# Altium footprint library 我的PCB.PcbLib: 347 footprints (part 14 of 22)
Each footprint in its own frame and in the unit in brackets; x right, y up, seen from the top. Pads: shape width x height; smd on the part's side, far side on the other; paste and mask are expansions set on the pad; w line width, h text height; cw(c..) or ccw(c..) is an arc to the next point about the centre after c.
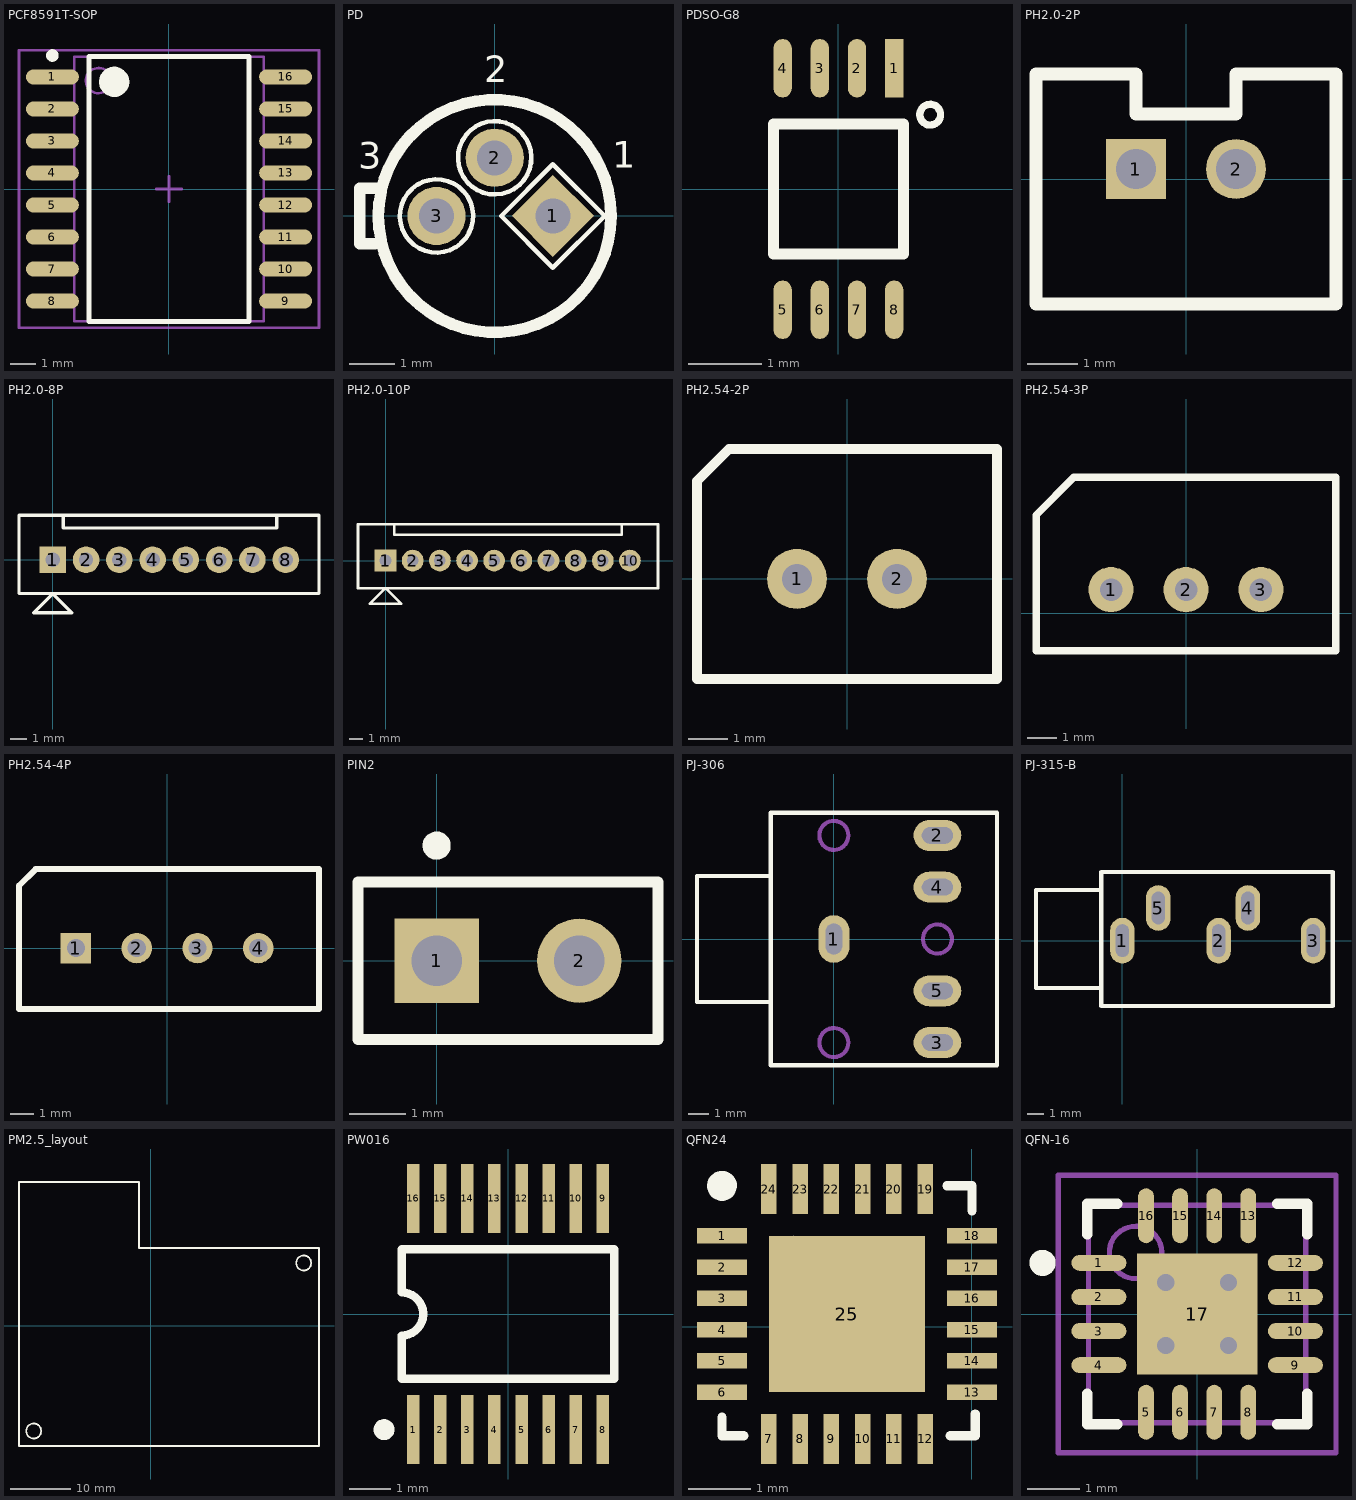
[diagram p13: the footprints below, top view; thin cyan lines are the x and y axes]

## PCF8591T-SOP [mm] "SOP, 16-Leads, Body 10.5x7.5mm (max), Pitch 1.27mm, IPC Medium Density"
height 2.65
pads (16):
  oval 2.1x0.6 smd: 1(-4.625,4.445) 2(-4.625,3.175) 3(-4.625,1.905) 4(-4.625,0.635) 5(-4.625,-0.635) 6(-4.625,-1.905) 7(-4.625,-3.175) 8(-4.625,-4.445) 9(4.625,-4.445) 10(4.625,-3.175) 11(4.625,-1.905) 12(4.625,-0.635) 13(4.625,0.635) 14(4.625,1.905) 15(4.625,3.175) 16(4.625,4.445)
Top Overlay:
  circle w0.25: c-4.625,5.295 r0.125
  circle w0.6: c-2.175,4.25 r0.3
  lines w0.2: -3.175,-5.25 -3.175,5.25 3.175,5.25 3.175,-5.25 -3.175,-5.25
Mechanical 13:
  circle w0.1: c-2.8,4.3 r0.5
  lines w0.1: -3.75,-5.25 -3.75,5.25 3.75,5.25 3.75,-5.25 -3.75,-5.25
Mechanical 15:
  lines w0.1: -0.5,0 0.5,0 ; 0,-0.5 0,0.5 ; -5.95,-5.5 -5.95,5.5 5.95,5.5 5.95,-5.5 -5.95,-5.5
3D body: height 2.65, standoff 0.1, extent -3.75,-5.25 3.75,5.25

## PD [mil]
pads (3):
  rect 50x50 hole 30 rot 45: 1(50,0)
  round 50 hole 30: 2(0,50) 3(-50,0)
Top Overlay:
  circle w10: c0,0 r100
  lines w3.94: -18.5,1 ccw(c-50,0) -18.5,0.98 ; 5.5,0 50,-44.5 94.5,0 50,44.5 5.5,0 ; 31.5,51 ccw(c0,50) 31.5,50.98
  lines w9.84: -103,-24 -116,-24 -116,24 -102,24
  text "3" at -117.5,33 h39.37
  text "2" at -9,107 h39.37
  text "1" at 101,33.5 h39.37
Bottom Overlay:
  lines w3.94: -18.5,1 ccw(c-50,0) -18.5,0.98 ; 5.5,0 50,44.5 94.5,0 50,-44.5 5.5,0 ; 31.5,51 ccw(c0,50) 31.5,50.98

## PDSO-G8 [mm] "U"
height 4
pads (8):
  rect 0.25x0.8 smd: 1(0.762,1.651)
  oval 0.25x0.8 smd: 2(0.254,1.651) 3(-0.254,1.651) 4(-0.762,1.651) 5(-0.762,-1.651) 6(-0.254,-1.651) 7(0.254,-1.651) 8(0.762,-1.651)
Top Overlay:
  circle w0.1: c1.255,1.016 r0.142
  lines w0.15: -0.889,-0.889 -0.889,0.889 0.889,0.889 0.889,-0.889 -0.889,-0.889

## PH2.0-2P [mm]
pads (2):
  rect 1.2x1.2 hole 0.8: 1(-1,0.2)
  round 1.2 hole 0.8: 2(1,0.2)
Top Overlay:
  lines w0.254: -3,-2.5 -3,2.1 -1,2.1 -1,1.3 1,1.3 1,2.1 3,2.1 3,-2.5 1,-2.5 -3,-2.5

## PH2.0-8P [mm]
height 10
pads (8):
  rect 1.6x1.6 hole 0.86: 1(0,0)
  round 1.6 hole 0.86: 2(2,0) 3(4,0) 4(6,0) 5(8,0) 6(10,0) 7(12,0) 8(14,0)
Top Overlay:
  lines w0.2: 0.635,2.667 0.635,1.905 13.462,1.905 13.462,2.667 ; -2.032,-2.032 16.002,-2.032 16.002,2.667 -2.032,2.667 -2.032,-2.032 ; -1.143,-3.175 1.143,-3.175 0,-2.032 -1.143,-3.175

## PH2.0-10P [mm]
height 10
pads (10):
  rect 1.6x1.6 hole 0.86: 1(0,0)
  round 1.6 hole 0.86: 2(2,0) 3(4,0) 4(6,0) 5(8,0) 6(10,0) 7(12,0) 8(14,0) 9(16,0) 10(18,0)
Top Overlay:
  lines w0.2: 0.635,2.667 0.635,1.905 17.399,1.905 17.399,2.667 ; -2.032,-2.032 -2.032,2.667 20.066,2.667 20.066,-2.032 -2.032,-2.032 ; -1.143,-3.175 0,-2.032 1.143,-3.175 -1.143,-3.175

## PH2.54-2P [mil]
pads (2):
  round 60 hole 30: 1(-50,0) 2(50,0)
Top Overlay:
  lines w10: -150,-100 150,-100 150,129.92 -118.11,129.92 -150,98.03 -150,-100

## PH2.54-3P [mil]
pads (3):
  round 60 hole 30: 1(-100,31.5) 2(0,31.5) 3(100,31.5)
Top Overlay:
  lines w10: -200,-50 200,-50 200,181.1 -149.61,181.1 -200,130.71 -200,-50

## PH2.54-4P [mil]
pads (4):
  rect 50x50 hole 30: 1(-150,0)
  round 50 hole 30: 2(-50,0) 3(50,0) 4(150,0)
Top Overlay:
  lines w10: -243.7,-100 -243.7,102.76 -216.46,130 250,130 250,-100 -243.7,-100

## PIN2 [mm] "Photosensitive Diode; 2 Leads"
height 2.6
pads (2):
  rect 1.5x1.5 hole 0.9: 1(0,0)
  round 1.5 hole 0.9: 2(2.54,0)
Top Overlay:
  circle w0.25: c0,2.05 r0.125
  lines w0.2: -1.4,-1.4 3.94,-1.4 3.94,1.4 -1.4,1.4 -1.4,-1.4

## PJ-306 [mm] "立体声耳机插座"
pads (5):
  oval 1.5x2.3 hole 0.8 slot 1.5 at 90 deg: 1(0,0)
  oval 2.3x1.5 hole 0.8 slot 1.5 at 0 deg: 2(5,5) 3(5,-5) 4(5,2.5) 5(5,-2.5)
Top Overlay:
  lines w0.2: -3.048,-3.048 -6.604,-3.048 -6.604,3.048 -3.048,3.048 ; -3.048,-6.096 7.874,-6.096 7.874,6.096 -3.048,6.096 -3.048,0 -3.048,-6.096
Mechanical 1:
  circle w0.2: c0,-5 r0.7
  circle w0.2: c0,5 r0.7
  circle w0.2: c5,0 r0.7

## PJ-315-B [mm] "立体声耳机插座"
pads (5):
  oval 1.5x2.8 hole 0.8 slot 2 at 90 deg: 1(0,0) 2(5.9,0) 3(11.7,0) 4(7.7,2) 5(2.2,2)
Top Overlay:
  lines w0.254: -1.3,-2.9 -5.3,-2.9 -5.3,3.1 -1.3,3.1 ; -1.3,-4 12.9,-4 12.9,4.2 -1.3,4.2 -1.3,-4

## PM2.5_layout [mm]
Top Overlay:
  circle w0.3: c-19.55,-17.5 r1.25
  circle w0.3: c25.45,10.5 r1.25
  lines w0.254: -22,-20 -22,24 -2,24 -2,13 28,13 28,-20 -22,-20

## PW016 [mm] "Shrink Small Outline; 16 Leads; Body Width 4.4 mm; Pitch 0.65 mm"
height 1.2
pads (16):
  rect 0.3x1.65 smd: 1(-2.275,-2.775) 2(-1.625,-2.775) 3(-0.975,-2.775) 4(-0.325,-2.775) 5(0.325,-2.775) 6(0.975,-2.775) 7(1.625,-2.775) 8(2.275,-2.775) 9(2.275,2.775) 10(1.625,2.775) 11(0.975,2.775) 12(0.325,2.775) 13(-0.325,2.775) 14(-0.975,2.775) 15(-1.625,2.775) 16(-2.275,2.775)
Top Overlay:
  circle w0.25: c-2.975,-2.775 r0.125
  lines w0.2: -2.55,-1.55 2.55,-1.55 2.55,1.55 -2.55,1.55 -2.55,0.517 cw(c-2.55,0) -2.55,-0.517 -2.55,-1.55

## QFN24 [mm] "QFN24"
pads (25):
  rect 0.8x0.25 smd: 1(-4,1.45) 2(-4,0.95) 3(-4,0.45) 4(-4,-0.05) 5(-4,-0.55) 6(-4,-1.05) 13(0,-1.05) 14(0,-0.55) 15(0,-0.05) 16(0,0.45) 17(0,0.95) 18(0,1.45)
  rect 0.25x0.8 smd: 7(-3.25,-1.8) 8(-2.75,-1.8) 9(-2.25,-1.8) 10(-1.75,-1.8) 11(-1.25,-1.8) 12(-0.75,-1.8) 19(-0.75,2.2) 20(-1.25,2.2) 21(-1.75,2.2) 22(-2.25,2.2) 23(-2.75,2.2) 24(-3.25,2.2)
  rect 2.5x2.5 smd: 25(-2,0.2)
Top Overlay:
  lines w0: -2.85,1.45 -2.85,1.45
  lines w0.15: -4,-1.45 -4,-1.75 -3.65,-1.75 ; -0.4,2.25 0,2.25 0,1.85 ; -0.35,-1.75 0.05,-1.75 0.05,-1.4
  lines w0.254: -3.9,2.2 cw(c-4,2.25) -3.888,2.25

## QFN-16 [mm] "QFN"
height 0.8
pads (17):
  oval 1.05x0.3 smd: 1(-1.875,0.975) 2(-1.875,0.325) 3(-1.875,-0.325) 4(-1.875,-0.975) 9(1.875,-0.975) 10(1.875,-0.325) 11(1.875,0.325) 12(1.875,0.975)
  oval 0.3x1.05 smd: 5(-0.975,-1.875) 6(-0.325,-1.875) 7(0.325,-1.875) 8(0.975,-1.875) 13(0.975,1.875) 14(0.325,1.875) 15(-0.325,1.875) 16(-0.975,1.875)
  rect 2.3x2.3 smd: 17(0,0)
via -0.6,0.6 diameter 0.66 hole 0.33
via 0.6,0.6 diameter 0.66 hole 0.33
via -0.6,-0.6 diameter 0.66 hole 0.33
via 0.6,-0.6 diameter 0.66 hole 0.33
Top Overlay:
  circle w0.25: c-2.95,0.975 r0.125
  lines w0.2: -2.1,-1.525 -2.1,-2.1 -1.525,-2.1 ; -2.1,1.525 -2.1,2.1 -1.525,2.1 ; 1.525,-2.1 2.1,-2.1 2.1,-1.525 ; 1.525,2.1 2.1,2.1 2.1,1.525
Mechanical 13:
  circle w0.1: c-1.175,1.175 r0.5
  lines w0.1: -2.075,-2.075 -2.075,2.075 2.075,2.075 2.075,-2.075 -2.075,-2.075
Mechanical 15:
  lines w0.1: -0.5,0 0.5,0 ; 0,-0.5 0,0.5 ; -2.65,-2.65 -2.65,2.65 2.65,2.65 2.65,-2.65 -2.65,-2.65
3D body: height 0.8, standoff 0, extent -2.075,-2.075 2.075,2.075